# Altium footprint library MT-CHARHER  V1.0.0.PcbLib: 38 footprints (part 2 of 3)
Each footprint in its own frame and in the unit in brackets; x right, y up, seen from the top. Pads: shape width x height; smd on the part's side, far side on the other; paste and mask are expansions set on the pad; w line width, h text height; cw(c..) or ccw(c..) is an arc to the next point about the centre after c.
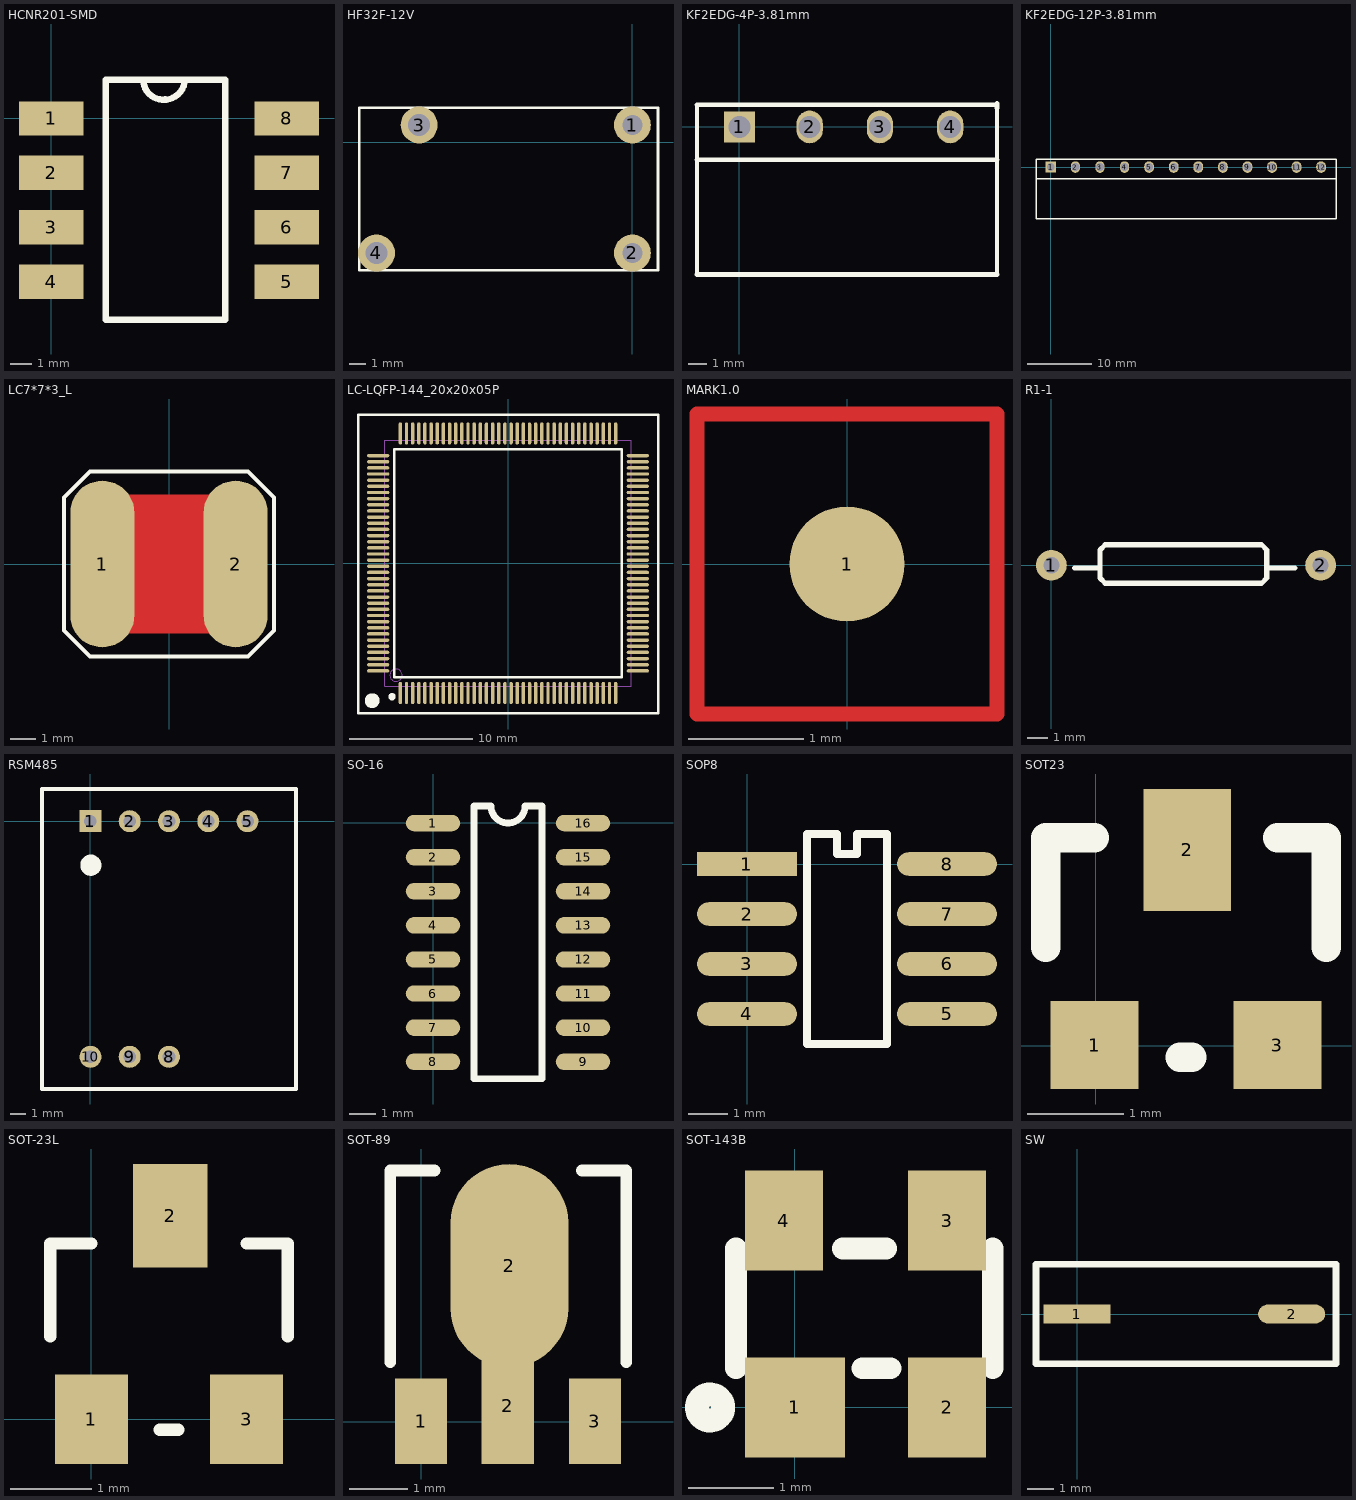
[diagram p1: the footprints below, top view; thin cyan lines are the x and y axes]

## HCNR201-SMD [mm]
pads (8):
  rect 3x1.6 smd: 1(0,0) 2(0,-2.54) 3(0,-5.08) 4(0,-7.62) 5(11,-7.62) 6(11,-5.08) 7(11,-2.54) 8(11,0)
Top Overlay:
  lines w0.3: 2.54,-9.4 2.54,1.8 8.128,1.8 8.128,-9.4 2.667,-9.4 ; 4.318,1.651 ccw(c5.207,1.778) 5.334,0.889 ; 5.08,0.889 ccw(c5.271,1.841) 6.223,1.651

## HF32F-12V [mm]
height 0.241
pads (4):
  round 2.2 hole 1.2: 1(0,1.016) 2(0,-6.604)
  round 2.2 hole 1.3: 3(-12.7,1.016) 4(-15.24,-6.604)
Top Overlay:
  lines w0.152: -16.256,-7.62 1.524,-7.62 1.524,-7.112 1.524,1.016 1.524,2.032 0.508,2.032 -16.256,2.032 -16.256,1.016 -16.256,-7.62

## KF2EDG-4P-3.81mm [mil]
pads (4):
  rect 66x66 hole 47.24: 1(0,0)
  oval 56x70 hole 47.24: 2(150,0) 3(300,0) 4(450,0)
Top Overlay:
  lines w7.87: -90.55,-314.96 -90.55,47.24
  lines w8: 550,-315 550,40
  lines w10: -90.55,-314.96 549.96,-314.96 ; -90.55,-70 550,-70 ; -90.55,47.24 542.76,47.24 ; 550,40 550,50

## KF2EDG-12P-3.81mm [mil]
pads (12):
  rect 66x66 hole 47.24: 1(0,0)
  oval 56x70 hole 47.24: 2(150,0) 3(300,0) 4(450,0)
  oval 60x70 hole 47.24: 5(600,0) 6(750,0) 7(900,0) 8(1050,0) 9(1200,0) 10(1350,0) 11(1500,0) 12(1650,0)
Top Overlay:
  lines w7.87: -90.55,-70 1740.55,-70 ; -90.55,-314.96 -90.55,47.24 1740.55,47.24 1740.55,-314.96 -90.55,-314.96

## LC7*7*3_L [mm]
pads (2):
  oval 2.5x6.5 smd: 1(-2.6,0) 2(2.6,0)
Top Layer:
  pour cut-out: -1.803,2.705 1.854,2.705 1.854,-2.705 -1.803,-2.705
Top Overlay:
  lines w0.152: 3.048,-3.607 -2.565,-3.607 -3.073,-3.607 -4.089,-2.591 -4.089,2.591 -3.073,3.607 -2.464,3.607 3.073,3.607 4.089,2.591 4.089,-2.591 3.073,-3.607
3D body: height 3.5, standoff 0, extent -2.455,-2.4 1.845,2.4

## LC-LQFP-144_20x20x05P [mm]
pads (144):
  oval 0.28x1.8 smd mask+0.051: 1(-8.75,-10.55) 2(-8.25,-10.55) 3(-7.75,-10.55) 4(-7.25,-10.55) 5(-6.75,-10.55) 6(-6.25,-10.55) 7(-5.75,-10.55) 8(-5.25,-10.55) 9(-4.75,-10.55) 10(-4.25,-10.55) 11(-3.75,-10.55) 12(-3.25,-10.55) 13(-2.75,-10.55) 14(-2.25,-10.55) 15(-1.75,-10.55) 16(-1.25,-10.55) 17(-0.75,-10.55) 18(-0.25,-10.55) 19(0.25,-10.55) 20(0.75,-10.55) 21(1.25,-10.55) 22(1.75,-10.55) 23(2.25,-10.55) 24(2.75,-10.55) 25(3.25,-10.55) 26(3.75,-10.55) 27(4.25,-10.55) 28(4.75,-10.55) 29(5.25,-10.55) 30(5.75,-10.55) 31(6.25,-10.55) 32(6.75,-10.55) 33(7.25,-10.55) 34(7.75,-10.55) 35(8.25,-10.55) 36(8.75,-10.55) 73(8.75,10.55) 74(8.25,10.55) 75(7.75,10.55) 76(7.25,10.55) 77(6.75,10.55) 78(6.25,10.55) 79(5.75,10.55) 80(5.25,10.55) 81(4.75,10.55) 82(4.25,10.55) 83(3.75,10.55) 84(3.25,10.55) 85(2.75,10.55) 86(2.25,10.55) 87(1.75,10.55) 88(1.25,10.55) 89(0.75,10.55) 90(0.25,10.55) 91(-0.25,10.55) 92(-0.75,10.55) 93(-1.25,10.55) 94(-1.75,10.55) 95(-2.25,10.55) 96(-2.75,10.55) 97(-3.25,10.55) 98(-3.75,10.55) 99(-4.25,10.55) 100(-4.75,10.55) 101(-5.25,10.55) 102(-5.75,10.55) 103(-6.25,10.55) 104(-6.75,10.55) 105(-7.25,10.55) 106(-7.75,10.55) 107(-8.25,10.55) 108(-8.75,10.55)
  oval 1.8x0.28 smd mask+0.051: 37(10.55,-8.75) 38(10.55,-8.25) 39(10.55,-7.75) 40(10.55,-7.25) 41(10.55,-6.75) 42(10.55,-6.25) 43(10.55,-5.75) 44(10.55,-5.25) 45(10.55,-4.75) 46(10.55,-4.25) 47(10.55,-3.75) 48(10.55,-3.25) 49(10.55,-2.75) 50(10.55,-2.25) 51(10.55,-1.75) 52(10.55,-1.25) 53(10.55,-0.75) 54(10.55,-0.25) 55(10.55,0.25) 56(10.55,0.75) 57(10.55,1.25) 58(10.55,1.75) 59(10.55,2.25) 60(10.55,2.75) 61(10.55,3.25) 62(10.55,3.75) 63(10.55,4.25) 64(10.55,4.75) 65(10.55,5.25) 66(10.55,5.75) 67(10.55,6.25) 68(10.55,6.75) 69(10.55,7.25) 70(10.55,7.75) 71(10.55,8.25) 72(10.55,8.75) 109(-10.55,8.75) 110(-10.55,8.25) 111(-10.55,7.75) 112(-10.55,7.25) 113(-10.55,6.75) 114(-10.55,6.25) 115(-10.55,5.75) 116(-10.55,5.25) 117(-10.55,4.75) 118(-10.55,4.25) 119(-10.55,3.75) 120(-10.55,3.25) 121(-10.55,2.75) 122(-10.55,2.25) 123(-10.55,1.75) 124(-10.55,1.25) 125(-10.55,0.75) 126(-10.55,0.25) 127(-10.55,-0.25) 128(-10.55,-0.75) 129(-10.55,-1.25) 130(-10.55,-1.75) 131(-10.55,-2.25) 132(-10.55,-2.75) 133(-10.55,-3.25) 134(-10.55,-3.75) 135(-10.55,-4.25) 136(-10.55,-4.75) 137(-10.55,-5.25) 138(-10.55,-5.75) 139(-10.55,-6.25) 140(-10.55,-6.75) 141(-10.55,-7.25) 142(-10.55,-7.75) 143(-10.55,-8.25) 144(-10.55,-8.75)
Top Overlay:
  circle w0.3: c-9.425,-10.85 r0.15
  circle w0.6: c-11.044,-11.171 r0.3
  lines w0.2: -9.25,-9.25 -9.25,9.25 9.25,9.25 9.25,-9.25 -9.25,-9.25
  lines w0.203: -12.192,-12.192 12.192,-12.192 12.192,12.065 11.938,12.065 -11.938,12.065 -12.192,12.065 -12.192,-12.192
Mechanical 13:
  circle w0.1: c-9.1,-9.1 r0.5
  lines w0.1: -10,-10 -10,10 10,10 10,-10 -10,-10

## MARK1.0 [mm]
pads (1):
  round 1 smd mask+0.5: 1(0,0)
Top Layer:
  lines w0.127: -1.3,-1.3 -1.3,1.3 1.3,1.3 1.3,-1.3 -1.3,-1.3

## R1-1 [mil]
height 9.5
pads (2):
  round 60 hole 31.5: 1(0,0) 2(525,0)
Top Overlay:
  lines w10: 45,-5 95,-5 ; 420,-5 475,-5 ; 95,-25 95,30 105,40 410,40 420,30 420,-25 410,-35 105,-35 95,-25

## RSM485 [mil]
pads (8):
  rect 56x56 hole 32: 1(0,0)
  round 56 hole 32: 2(100,0) 3(200,0) 4(300,0) 5(400,0) 8(200,-600) 9(100,-600) 10(0,-600)
Top Overlay:
  circle w30: c1,-112 r12
  lines w10: -123,-682 -123,82 523,82 523,-682 -123,-682

## SO-16 [mil]
pads (16):
  oval 80x24 smd: 1(-0.2,-0.3) 2(-0.2,-50.3) 3(-0.2,-100.3) 4(-0.2,-150.3) 5(-0.2,-200.3) 6(-0.2,-250.3) 7(-0.2,-300.3) 8(-0.2,-350.3) 9(219.8,-350.3) 10(219.8,-300.3) 11(219.8,-250.3) 12(219.8,-200.3) 13(219.8,-150.3) 14(219.8,-100.3) 15(219.8,-50.3) 16(219.8,-0.3)
Top Overlay:
  lines w10: 59.8,-375.3 159.8,-375.3 159.8,24.7 134.8,24.7 cw(c109.8,24.7) 84.8,24.7 59.8,24.7 59.8,-375.3

## SOP8 [mm]
pads (8):
  rect 2.54x0.6 smd: 1(-0.006,0.006)
  oval 2.54x0.6 smd: 2(-0.006,-1.264) 3(-0.006,-2.534) 4(-0.006,-3.804) 5(5.074,-3.804) 6(5.074,-2.534) 7(5.074,-1.264) 8(5.074,0.006)
Top Overlay:
  lines w0.203: 1.518,-4.566 1.518,0.768 2.28,0.768 2.28,0.26 2.788,0.26 2.788,0.768 3.55,0.768 3.55,-4.566 1.518,-4.566

## SOT23 [mil]
height 9.5
pads (3):
  rect 36x36 smd: 1(-0.49,0.35) 3(74.51,0.35)
  rect 36x50 smd: 2(37.51,80.35)
Top Overlay:
  lines w12: -20.49,40.35 -20.49,85.35 -0.49,85.35 ; 34.51,-4.65 39.51,-4.65 ; 74.51,85.35 94.51,85.35 94.51,40.35

## SOT-23L [mm]
pads (3):
  rect 0.9x1.1 smd: 1(0,0) 3(1.905,0)
  rect 0.914x1.27 smd: 2(0.965,2.5)
Top Overlay:
  lines w0.152: -0.508,1.016 -0.508,2.159 0,2.159 ; 0.838,-0.127 1.067,-0.127 ; 1.905,2.159 2.413,2.159 2.413,1.016

## SOT-89 [mm]
pads (4):
  rect 0.9x1.473 smd: 1(0,0.006) 3(2.994,0.006)
  rect 0.9x2 smd: 2(1.494,0.273)
  oval 2.032x3.5 smd: 2(1.519,2.686)
Top Overlay:
  lines w0.203: -0.532,1.022 -0.532,4.324 0.23,4.324 ; 2.77,4.324 3.532,4.324 3.532,1.022

## SOT-143B [mil]
height 9.5
pads (4):
  rect 46x46 smd: 1(0,0)
  rect 36x46 smd: 2(70,0) 3(70,86) 4(-5,86)
Top Overlay:
  circle w11: c-39,0 r6
  lines w10: -27.11,18 -27.11,73.12 ; 22,73.12 42,73.12 ; 31,18 44,18 ; 91,18 91,73.12

## SW [mm]
pads (2):
  rect 2.5x0.7 smd: 1(-0.006,0.008)
  oval 2.5x0.7 smd: 2(7.994,0.008)
Top Overlay:
  lines w0.254: -1.53,-1.842 -1.53,1.858 9.646,1.858 9.646,-1.842 -1.53,-1.842